# EAGLE library part ISO1042DWV (library ISO1042DWV)
CAN Interface IC Source: Datasheet <https://www.arrow.com/en/products/iso1042dwv/texas-instruments>
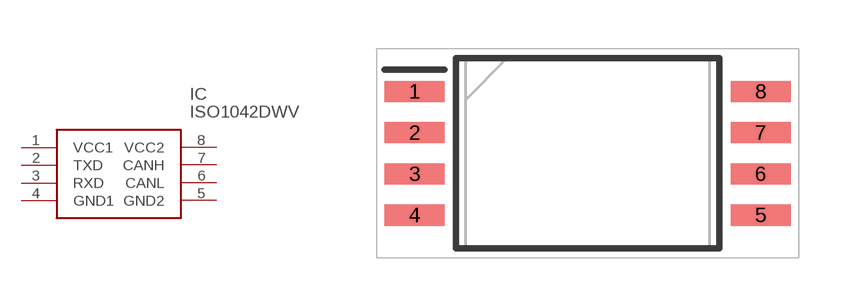
[diagram p0: symbol with the pads of SOIC127P1150X280-8N; footprint SOIC127P1150X280-8N]

Designator prefix IC

## ISO1042DWV (DESCRIPTION: CAN Interface IC; HEIGHT: 2.8mm; MANUFACTURER_NAME: Texas Instruments; MANUFACTURER_PART_NUMBER: ISO1042DWV; MOUSER_PART_NUMBER: 595-ISO1042DWV; MOUSER_PRICE-STOCK: https://www.mouser.co.uk/ProductDetail/Texas-Instruments/ISO1042DWV?qs=qSfuJ%252Bfl%2Fd6fIgLDsh3Gaw%3D%3D)  [SOIC127P1150X280-8N]
1  VCC1
2  TXD
3  RXD
4  GND1
5  GND2
6  CANL
7  CANH
8  VCC2

## Footprint SOIC127P1150X280-8N (pad centres in mm)
DWV0008A
smd 1.85 x 0.65: 1 -5.325,1.905; 2 -5.325,0.635; 3 -5.325,-0.635; 4 -5.325,-1.905; 5 5.325,-1.905; 6 5.325,-0.635; 7 5.325,0.635; 8 5.325,1.905